# EAGLE library part CAP1188 (library aaaacustom)
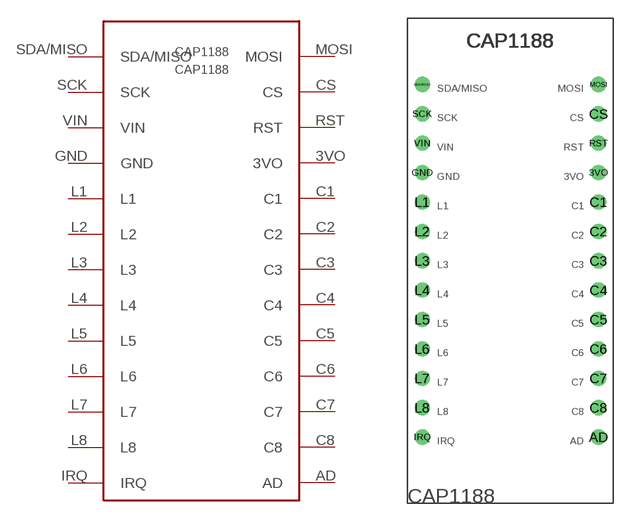
[diagram p0: symbol with the pads of CAP1188; footprint CAP1188]

Designator prefix -

## CAP1188  [CAP1188]
3VO  3VO
AD  AD
C1  C1
C2  C2
C3  C3
C4  C4
C5  C5
C6  C6
C7  C7
C8  C8
CS  CS
GND  GND
IRQ  IRQ
L1  L1
L2  L2
L3  L3
L4  L4
L5  L5
L6  L6
L7  L7
L8  L8
MOSI  MOSI
RST  RST
SCK  SCK
SDA/MISO  SDA/MISO
VIN  VIN

## Footprint CAP1188 (pad centres in mm)
drill 0.8: 3VO 16.51,28.575; AD 16.51,5.715; C1 16.51,26.035; C2 16.51,23.495; C3 16.51,20.955; C4 16.51,18.415; C5 16.51,15.875; C6 16.51,13.335; C7 16.51,10.795; C8 16.51,8.255; CS 16.51,33.655; GND 1.27,28.575; IRQ 1.27,5.715; L1 1.27,26.035; L2 1.27,23.495; L3 1.27,20.955; L4 1.27,18.415; L5 1.27,15.875; L6 1.27,13.335; L7 1.27,10.795; L8 1.27,8.255; MOSI 16.51,36.195; RST 16.51,31.115; SCK 1.27,33.655; SDA/MISO 1.27,36.195; VIN 1.27,31.115